# Altium footprint library RadioProjectFPLib.PcbLib: 35 footprints (part 1 of 3)
Each footprint in its own frame and in the unit in brackets; x right, y up, seen from the top. Pads: shape width x height; smd on the part's side, far side on the other; paste and mask are expansions set on the pad; w line width, h text height; cw(c..) or ccw(c..) is an arc to the next point about the centre after c.
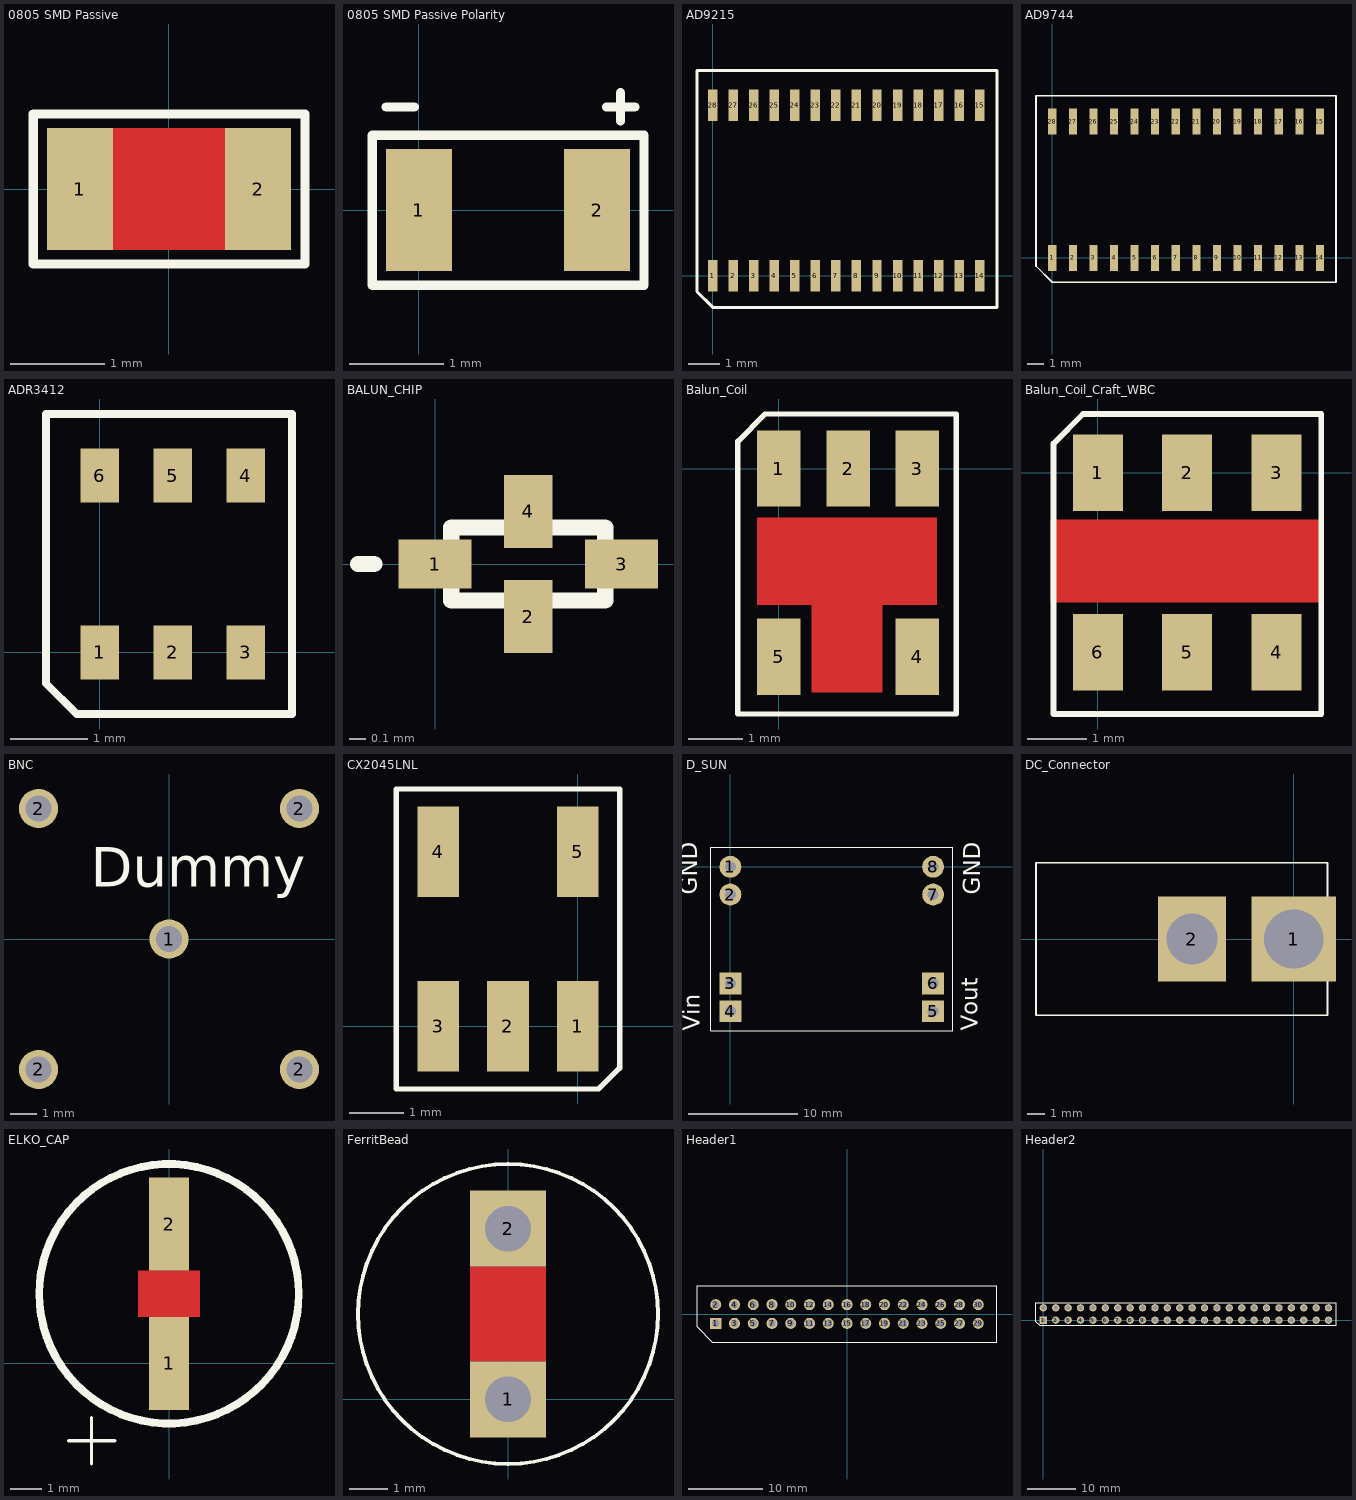
[diagram p0: the footprints below, top view; thin cyan lines are the x and y axes]

## 0805 SMD Passive [mm] "General 0805 SMD componenet footprint"
height 0.45
pads (2):
  rect 0.7x1.3 smd: 1(-0.95,0) 2(0.95,0)
Top Layer:
  pour cut-out: -0.6,0.65 0.6,0.65 0.6,-0.65 -0.6,-0.65
Top Overlay:
  lines w0.1: -1.45,-0.8 -1.45,0.8 1.45,0.8 1.45,-0.8 -1.45,-0.8
3D body: height 0.45, standoff 0, extent -1.15,-0.6 1.15,0.6

## 0805 SMD Passive Polarity [mm] "General 0805 SMD componenet footprint"
height 0.45
pads (2):
  rect 0.7x1.3 smd: 1(0,0) 2(1.9,0)
Top Overlay:
  lines w0.1: -0.35,1.1 -0.05,1.1 ; 2,1.1 2.3,1.1 ; 2.15,0.95 2.15,1.25 ; -0.5,-0.8 -0.5,0.8 2.4,0.8 2.4,-0.8 -0.5,-0.8
3D body: height 0.45, standoff 0, extent -0.2,-0.6 2.1,0.6

## AD9215 [mm] "TSSOP-28"
height 1.2
pads (28):
  rect 0.3x1 smd: 1(0,0) 2(0.65,0) 3(1.3,0) 4(1.95,0) 5(2.6,0) 6(3.25,0) 7(3.9,0) 8(4.55,0) 9(5.2,0) 10(5.85,0) 11(6.5,0) 12(7.15,0) 13(7.8,0) 14(8.45,0) 15(8.45,5.4) 16(7.8,5.4) 17(7.15,5.4) 18(6.5,5.4) 19(5.85,5.4) 20(5.2,5.4) 21(4.55,5.4) 22(3.9,5.4) 23(3.25,5.4) 24(2.6,5.4) 25(1.95,5.4) 26(1.3,5.4) 27(0.65,5.4) 28(0,5.4)
Top Overlay:
  lines w0.1: -0.5,-0.5 0,-1 9,-1 9,6.5 -0.5,6.5 -0.5,-0.5
3D body: height 1.45, standoff 0.1, extent 0,0 8.5,5.5

## AD9744 [mm] "SOIC-28"
height 2.65
pads (28):
  rect 0.5x1.6 smd: 1(0,0) 2(1.27,0) 3(2.54,0) 4(3.81,0) 5(5.08,0) 6(6.35,0) 7(7.62,0) 8(8.89,0) 9(10.16,0) 10(11.43,0) 11(12.7,0) 12(13.97,0) 13(15.24,0) 14(16.51,0) 15(16.51,8.4) 16(15.24,8.4) 17(13.97,8.4) 18(12.7,8.4) 19(11.43,8.4) 20(10.16,8.4) 21(8.89,8.4) 22(7.62,8.4) 23(6.35,8.4) 24(5.08,8.4) 25(3.81,8.4) 26(2.54,8.4) 27(1.27,8.4) 28(0,8.4)
Top Overlay:
  lines w0.1: -1,-0.5 0,-1.5 17.5,-1.5 17.5,10 -1,10 -1,-0.5
3D body: height 1.45, standoff 0.1, extent -0.5,0 17,8.5

## ADR3412 [mm]
height 1.45
pads (6):
  rect 0.5x0.7 smd: 1(0,0) 2(0.95,0) 3(1.9,0) 4(1.9,2.3) 5(0.95,2.3) 6(0,2.3)
Top Overlay:
  lines w0.1: -0.7,-0.4 -0.7,3.1 2.5,3.1 2.5,-0.8 -0.3,-0.8 -0.7,-0.4
3D body: height 1.45, standoff 0.1, extent -0.2,0.1 2.1,2.2

## BALUN_CHIP [mm] "Chip Package SMD"
height 1
pads (4):
  rect 0.45x0.3 smd: 1(0,0) 3(1.15,0)
  rect 0.3x0.45 smd: 2(0.575,-0.325) 4(0.575,0.325)
Top Overlay:
  lines w0.1: -0.475,0 -0.375,0 ; 0.1,-0.225 0.1,0.225 1.05,0.225 1.05,-0.225 0.1,-0.225
3D body: height 0.4, standoff 0, extent 0.15,-0.225 1,0.225

## Balun_Coil [mm] "SMD Transformer"
height 7
pads (5):
  rect 0.8x1.4 smd: 1(0,0) 2(1.27,0) 3(2.54,0) 4(2.54,-3.45) 5(0,-3.45)
Top Layer:
  pour cut-out: -0.4,-0.9 -0.4,-2.5 0.6,-2.5 0.6,-4.1 1.9,-4.1 1.9,-2.5 2.9,-2.5 2.9,-0.9
Top Overlay:
  lines w0.1: -0.75,-4.5 3.25,-4.5 3.25,1 -0.25,1 -0.75,0.5 -0.75,-4.5
3D body: height 1, standoff 0, extent -0.25,-3.75 2.75,0.25
3D body: height 3, standoff 1, extent 0.254,-2.25 2.246,-1.25

## Balun_Coil_Craft_WBC [mm] "SMD Transformer"
height 6
pads (6):
  rect 0.85x1.3 smd: 1(0,0) 2(1.52,0) 3(3.04,0) 4(3.04,-3.05) 5(1.52,-3.05) 6(0,-3.05)
Top Layer:
  pour cut-out: -0.8,-0.8 3.8,-0.8 3.8,-2.2 -0.8,-2.2
Top Overlay:
  lines w0.1: -0.75,-4.1 3.8,-4.1 3.8,1 -0.25,1 -0.75,0.5 -0.75,-4.1
3D body: height 3, standoff 0, extent -0.25,-3.75 3.04,0.25

## BNC [mm] "BNC THD connector"
height 11
pads (5):
  round 1.5 hole 1: 1(0,0) 2(-5,-5) 2(-5,5) 2(5,-5) 2(5,5)
Top Overlay:
  text "Dummy" at -3,2 h1.52

## CX2045LNL [mil] "1:2 transformer balun"
height 4.33
pads (5):
  rect 30x65 smd: 1(0,0) 2(-50,0) 3(-100,0) 4(-100,125) 5(0,125)
Top Overlay:
  lines w3.94: -130,-45 -130,170 30,170 30,-30 15,-45 -130,-45
3D body: height 90, standoff 20, extent -100,15 0,115
3D body: height 20, standoff 0, extent -125,-10 25,140

## D_SUN [mm] "Switicng Powersupply Modul"
height 5
pads (8):
  round 2 hole 1: 1(0,0) 2(0,-2.54) 7(18.542,-2.54) 8(18.542,0)
  rect 2x2 hole 1: 3(0,-10.668) 4(0,-13.208) 5(18.542,-13.208) 6(18.542,-10.668)
Top Overlay:
  lines w0.1: -1.778,-14.986 -1.778,1.778 20.32,1.778 20.32,-14.986 -1.778,-14.986
  text "Vin" at -2.794,-14.986 h1.52
  text "Vout" at 22.606,-14.986 h1.52
  text "GND" at 22.86,-2.54 h1.52
  text "GND" at -3.048,-2.54 h1.52
3D body: height 0, standoff -4, extent 18.145,-0.399 18.942,0.399
3D body: height 0, standoff -4, extent 18.145,-2.939 18.942,-2.141
3D body: height 0, standoff -4, extent 18.145,-11.067 18.942,-10.269
3D body: height 0, standoff -4, extent 18.145,-13.607 18.942,-12.809
3D body: height 0, standoff -4, extent -0.397,-11.067 0.4,-10.269
3D body: height 0, standoff -4, extent -0.397,-13.607 0.4,-12.809
3D body: height 0, standoff -4, extent -0.397,-2.939 0.4,-2.141
3D body: height 0, standoff -4, extent -0.397,-0.399 0.4,0.399
3D body: height 1.6, standoff -0.4, extent -1.778,-14.986 20.32,1.778
3D body: height 2.4, standoff 1.6, extent 3.81,-7.62 8.89,-5.08
3D body: height 4, standoff 1.6, extent 9.144,-8.128 15.24,-2.54

## DC_Connector [mm] "Power Connector"
height 11
pads (2):
  rect 5x5 hole 3.5: 1(0,0)
  rect 4x5 hole 3: 2(-6,0)
Top Overlay:
  lines w0.1: -15.2,-4.5 -15.2,0 -15.2,4.5 1.5,4.5 2,4.5 2,-4.5 -15.2,-4.5
3D body: height 10.46, standoff 1.5, extent -15.2,-4.491 -1.2,4.491
3D body: height 6.5, standoff 0, extent -15.2,-4.5 0.5,4.5

## ELKO_CAP [mm] "Electrolit SMD capacitor"
height 6
pads (2):
  rect 1.3x3 smd: 1(0,0) 2(0,4.5)
Top Layer:
  pour cut-out: 1,3 -1,3 -1,1.5 1,1.5
Top Overlay:
  circle w0.254: c0,2.25 r4.191
  lines w0.1: -3.25,-2.5 -1.75,-2.5 ; -2.5,-3.25 -2.5,-1.75
3D body: height 5.4, standoff 0, extent -2.48,0.005 2.5,4.995

## FerritBead [mm] "THD"
height 10
pads (2):
  rect 2x2 hole 1.2: 1(0,0) 2(0,4.5)
Top Layer:
  pour cut-out: -1,3.5 1,3.5 1,1 -1,1
Bottom Layer:
  pour cut-out: -1,3.5 1,3.5 1,1 -1,1
Top Overlay:
  circle w0.1: c0,2.25 r3.953
3D body: height 10, standoff 0, extent -2.976,-0.744 3,5.244

## Header1 [mm] "30-Pin DIL"
height 4
pads (30):
  rect 1.5x1.5 hole 1: 1(-17.78,-1.27)
  round 1.5 hole 1: 2(-17.78,1.27) 3(-15.24,-1.27) 4(-15.24,1.27) 5(-12.7,-1.27) 6(-12.7,1.27) 7(-10.16,-1.27) 8(-10.16,1.27) 9(-7.62,-1.27) 10(-7.62,1.27) 11(-5.08,-1.27) 12(-5.08,1.27) 13(-2.54,-1.27) 14(-2.54,1.27) 15(0,-1.27) 16(0,1.27) 17(2.54,-1.27) 18(2.54,1.27) 19(5.08,-1.27) 20(5.08,1.27) 21(7.62,-1.27) 22(7.62,1.27) 23(10.16,-1.27) 24(10.16,1.27) 25(12.7,-1.27) 26(12.7,1.27) 27(15.24,-1.27) 28(15.24,1.27) 29(17.78,-1.27) 30(17.78,1.27)
Top Overlay:
  lines w0.1: -20.32,-1.73 -18.24,-3.81 20.32,-3.81 20.32,3.81 -20.32,3.81 -20.32,-1.73
3D body: height 2, standoff -8, extent 12.383,-1.589 13.02,-0.95
3D body: height 2, standoff -8, extent 14.923,-1.589 15.56,-0.95
3D body: height 2, standoff -8, extent 17.463,-1.589 18.1,-0.95
3D body: height 2, standoff -8, extent 17.463,0.951 18.1,1.59
3D body: height 2, standoff -8, extent 14.923,0.951 15.56,1.59
3D body: height 2, standoff -8, extent 12.383,0.951 13.02,1.59
3D body: height 2, standoff -8, extent 9.843,0.951 10.48,1.59
3D body: height 2, standoff -8, extent 9.903,-1.589 10.54,-0.95
3D body: height 2, standoff -8, extent 7.303,-1.589 7.94,-0.95
3D body: height 2, standoff -8, extent 7.303,0.951 7.94,1.59
3D body: height 2, standoff -8, extent 4.763,-1.589 5.4,-0.95
3D body: height 2, standoff -8, extent 4.763,0.951 5.4,1.59
3D body: height 2, standoff -8, extent 2.223,-1.589 2.86,-0.95
3D body: height 2, standoff -8, extent 2.223,0.951 2.86,1.59
3D body: height 2, standoff -8, extent -0.317,-1.589 0.32,-0.95
3D body: height 2, standoff -8, extent -0.317,0.951 0.32,1.59
3D body: height 2, standoff -8, extent -2.857,-1.589 -2.22,-0.95
3D body: height 2, standoff -8, extent -2.857,0.951 -2.22,1.59
3D body: height 2, standoff -8, extent -5.397,-1.589 -4.76,-0.95
3D body: height 2, standoff -8, extent -5.397,0.951 -4.76,1.59
3D body: height 2, standoff -8, extent -7.937,0.951 -7.3,1.59
3D body: height 2, standoff -8, extent -10.477,0.951 -9.84,1.59
3D body: height 2, standoff -8, extent -13.017,0.951 -12.38,1.59
3D body: height 2, standoff -8, extent -15.557,0.951 -14.92,1.59
3D body: height 2, standoff -8, extent -18.097,0.951 -17.46,1.59
3D body: height 2, standoff -8, extent -7.937,-1.589 -7.3,-0.95
3D body: height 2, standoff -8, extent -10.477,-1.589 -9.84,-0.95
3D body: height 2, standoff -8, extent -13.017,-1.589 -12.38,-0.95
3D body: height 2, standoff -8, extent -15.557,-1.589 -14.92,-0.95
3D body: height 2, standoff -8, extent -18.097,-1.589 -17.46,-0.95
3D body: height 0, standoff -4.6, extent -19.28,-3.27 19.72,3.23

## Header2 [mm] "48-Pin DIL"
height 4
pads (48):
  rect 1.5x1.5 hole 1: 1(0,0)
  round 1.5 hole 1: 2(2.54,0) 3(5.08,0) 4(7.62,0) 5(10.16,0) 6(12.7,0) 7(15.24,0) 8(17.78,0) 9(20.32,0) 10(22.86,0) 11(25.4,0) 12(27.94,0) 13(30.48,0) 14(33.02,0) 15(35.56,0) 16(38.1,0) 17(40.64,0) 18(43.18,0) 19(45.72,0) 20(48.26,0) 21(50.8,0) 22(53.34,0) 23(55.88,0) 24(58.42,0) 25(0,2.54) 26(2.54,2.54) 27(5.08,2.54) 28(7.62,2.54) 29(10.16,2.54) 30(12.7,2.54) 31(15.24,2.54) 32(17.78,2.54) 33(20.32,2.54) 34(22.86,2.54) 35(25.4,2.54) 36(27.94,2.54) 37(30.48,2.54) 38(33.02,2.54) 39(35.56,2.54) 40(38.1,2.54) 41(40.64,2.54) 42(43.18,2.54) 43(45.72,2.54) 44(48.26,2.54) 45(50.8,2.54) 46(53.34,2.54) 47(55.88,2.54) 48(58.42,2.54)
Top Overlay:
  lines w0.1: -1.5,-0.278 -1.5,3.556 59.944,3.556 59.944,-1.016 -0.762,-1.016 -1.5,-0.278
3D body: height 3, standoff 0, extent -1.5,-1.016 60,3.556
3D body: height 8, standoff -2, extent -0.645,-0.649 0.65,0.649
3D body: height 8, standoff -2, extent 1.895,-0.649 3.19,0.649
3D body: height 8, standoff -2, extent 4.435,-0.649 5.73,0.649
3D body: height 8, standoff -2, extent 6.975,-0.649 8.27,0.649
3D body: height 8, standoff -2, extent 9.515,-0.649 10.81,0.649
3D body: height 8, standoff -2, extent -0.645,1.891 0.65,3.189
3D body: height 8, standoff -2, extent 1.895,1.891 3.19,3.189
3D body: height 8, standoff -2, extent 4.435,1.891 5.73,3.189
3D body: height 8, standoff -2, extent 6.975,1.891 8.27,3.189
3D body: height 8, standoff -2, extent 9.515,1.891 10.81,3.189
3D body: height 8, standoff -2, extent 12.055,1.891 13.35,3.189
3D body: height 8, standoff -2, extent 12.055,-0.649 13.35,0.649
3D body: height 8, standoff -2, extent 14.595,1.891 15.89,3.189
3D body: height 8, standoff -2, extent 14.595,-0.649 15.89,0.649
3D body: height 8, standoff -2, extent 17.135,1.891 18.43,3.189
3D body: height 8, standoff -2, extent 17.135,-0.649 18.43,0.649
3D body: height 8, standoff -2, extent 19.675,1.891 20.97,3.189
3D body: height 8, standoff -2, extent 19.675,-0.649 20.97,0.649
3D body: height 8, standoff -2, extent 22.215,1.891 23.51,3.189
3D body: height 8, standoff -2, extent 22.215,-0.649 23.51,0.649
3D body: height 8, standoff -2, extent 24.755,1.891 26.05,3.189
3D body: height 8, standoff -2, extent 24.755,-0.649 26.05,0.649
3D body: height 8, standoff -2, extent 27.355,-0.649 28.65,0.649
3D body: height 8, standoff -2, extent 27.295,1.891 28.59,3.189
3D body: height 8, standoff -2, extent 29.835,1.891 31.13,3.189
3D body: height 8, standoff -2, extent 32.375,1.891 33.67,3.189
3D body: height 8, standoff -2, extent 34.915,1.891 36.21,3.189
3D body: height 8, standoff -2, extent 34.915,-0.649 36.21,0.649
3D body: height 8, standoff -2, extent 32.375,-0.649 33.67,0.649
3D body: height 8, standoff -2, extent 29.835,-0.649 31.13,0.649
3D body: height 8, standoff -2, extent 37.455,-0.649 38.75,0.649
3D body: height 8, standoff -2, extent 37.455,1.891 38.75,3.189
3D body: height 8, standoff -2, extent 39.995,-0.649 41.29,0.649
3D body: height 8, standoff -2, extent 39.995,1.891 41.29,3.189
3D body: height 8, standoff -2, extent 42.535,-0.649 43.83,0.649
3D body: height 8, standoff -2, extent 42.535,1.891 43.83,3.189
3D body: height 8, standoff -2, extent 45.075,-0.649 46.37,0.649
3D body: height 8, standoff -2, extent 45.075,1.891 46.37,3.189
3D body: height 8, standoff -2, extent 47.615,-0.649 48.91,0.649
3D body: height 8, standoff -2, extent 47.615,1.891 48.91,3.189
3D body: height 8, standoff -2, extent 50.155,-0.649 51.45,0.649
3D body: height 8, standoff -2, extent 50.155,1.891 51.45,3.189
3D body: height 8, standoff -2, extent 52.695,-0.649 53.99,0.649
3D body: height 8, standoff -2, extent 52.695,1.891 53.99,3.189
3D body: height 8, standoff -2, extent 55.235,-0.649 56.53,0.649
3D body: height 8, standoff -2, extent 55.235,1.891 56.53,3.189
3D body: height 8, standoff -2, extent 57.775,-0.649 59.07,0.649
3D body: height 8, standoff -2, extent 57.775,1.891 59.07,3.189